# Altium footprint library k7shared.PcbLib: 8 footprints
Each footprint in its own frame and in the unit in brackets; x right, y up, seen from the top. Pads: shape width x height; smd on the part's side, far side on the other; paste and mask are expansions set on the pad; w line width, h text height; cw(c..) or ccw(c..) is an arc to the next point about the centre after c.
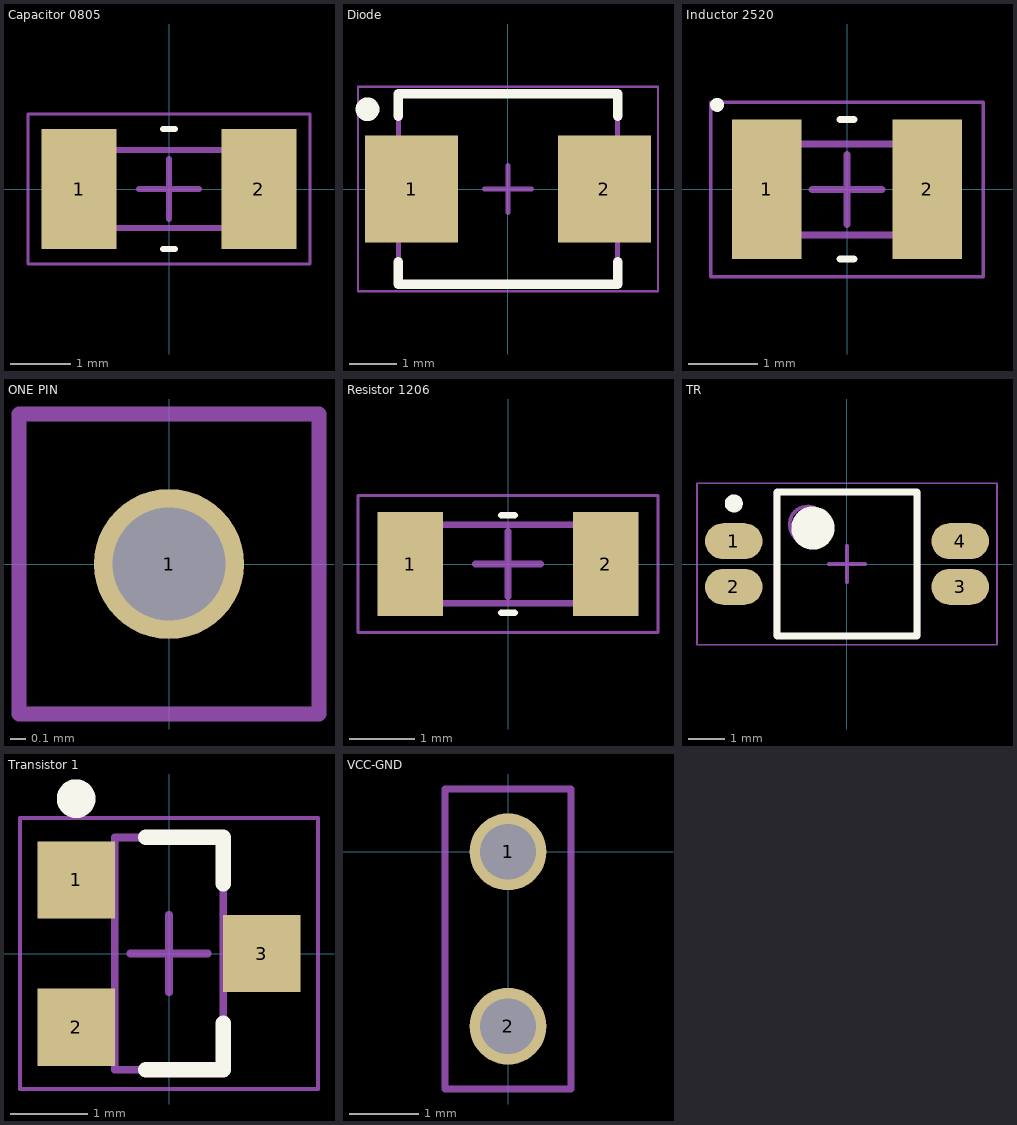
[diagram p0: the footprints below, top view; thin cyan lines are the x and y axes]

## Capacitor 0805 [mm]
height 0.6
pads (2):
  rect 1.25x2 smd: 1(-1.5,0) 2(1.5,0)
Top Overlay:
  lines w0.1: -0.1,-1 0.1,-1 ; -0.1,1 0.1,1
Mechanical 13:
  lines w0.1: -1.75,-0.65 1.75,-0.65 1.75,0.65 -1.75,0.65 -1.75,-0.65
Mechanical 15:
  lines w0.05: -2.35,-1.25 2.35,-1.25 2.35,1.25 -2.35,1.25 -2.35,-1.25
  lines w0.1: -0.5,0 0.5,0 ; 0,-0.5 0,0.5
3D body: height 0.6, standoff 0, extent 1.15,-0.65 1.75,0.65
3D body: height 0.6, standoff 0, extent -1.75,-0.65 -1.15,0.65
3D body: height 0.6, standoff 0, extent -1.15,-0.65 1.15,0.65

## Diode [mm]
height 1.1
pads (2):
  rect 1.95x2.25 smd: 1(-2.025,0) 2(2.025,0)
Top Overlay:
  circle w0.25: c-2.95,1.675 r0.125
  lines w0.2: -2.3,-1.525 -2.3,-2 2.3,-2 2.3,-1.525 ; -2.3,1.525 -2.3,2 2.3,2 2.3,1.525
Mechanical 13:
  lines w0.1: -2.3,-1.975 2.3,-1.975 2.3,1.975 -2.3,1.975 -2.3,-1.975
Mechanical 15:
  lines w0.05: -3.15,-2.15 3.15,-2.15 3.15,2.15 -3.15,2.15 -3.15,-2.15
  lines w0.1: -0.5,0 0.5,0 ; 0,-0.5 0,0.5
3D body: height 1.1, standoff 0, extent -2.3,-1.975 2.3,1.975

## Inductor 2520 [mm]
height 0.6
pads (2):
  rect 1x2 smd: 1(-1.15,0) 2(1.15,0)
Top Overlay:
  circle w0.1: c-1.862,1.212 r0.05
  lines w0.1: -0.1,-1 0.1,-1 ; -0.1,1 0.1,1
Mechanical 13:
  lines w0.1: -1.3,-0.65 -1.3,0.65 1.3,0.65 1.3,-0.65 -1.3,-0.65
Mechanical 15:
  lines w0.05: -1.95,-1.25 -1.95,1.25 1.95,1.25 1.95,-1.25 -1.95,-1.25
  lines w0.1: -0.5,0 0.5,0 ; 0,-0.5 0,0.5
3D body: height 0.6, standoff 0, extent -0.7,-0.65 0.7,0.65
3D body: height 0.6, standoff 0, extent -1.3,-0.65 -0.7,0.65
3D body: height 0.6, standoff 0, extent 0.7,-0.65 1.3,0.65

## ONE PIN [mm]
pads (1):
  round 1 hole 0.75: 1(0,0)
Mechanical 15:
  lines w0.1: -1,-1 -1,1 1,1 1,-1 -1,-1

## Resistor 1206 [mm]
height 0.6
pads (2):
  rect 1x1.6 smd: 1(-1.5,0) 2(1.5,0)
Top Overlay:
  lines w0.1: -0.1,-0.75 0.1,-0.75 ; -0.1,0.75 0.1,0.75
Mechanical 13:
  lines w0.1: -1.7,-0.6 1.7,-0.6 1.7,0.6 -1.7,0.6 -1.7,-0.6
Mechanical 15:
  lines w0.05: -2.3,-1.05 2.3,-1.05 2.3,1.05 -2.3,1.05 -2.3,-1.05
  lines w0.1: -0.5,0 0.5,0 ; 0,-0.5 0,0.5
3D body: height 0.6, standoff 0, extent 1.1,-0.6 1.7,0.6
3D body: height 0.6, standoff 0, extent -1.7,-0.6 -1.1,0.6
3D body: height 0.6, standoff 0, extent -1.1,-0.6 1.1,0.6

## TR [mm]
height 2.65
pads (4):
  oval 1.6x1 smd: 1(-3.15,0.635) 2(-3.15,-0.635) 3(3.15,-0.635) 4(3.15,0.635)
Top Overlay:
  circle w0.6: c-0.95,1 r0.3
  circle w0.25: c-3.15,1.685 r0.125
  lines w0.2: -1.95,-2 1.95,-2 1.95,2 -1.95,2 -1.95,-2
Mechanical 13:
  circle w0.1: c-1.1,1.1 r0.5
  lines w0.1: -2,-2 2,-2 2,2 -2,2 -2,-2
Mechanical 15:
  lines w0.05: -4.175,-2.25 4.175,-2.25 4.175,2.25 -4.175,2.25 -4.175,-2.25
  lines w0.1: -0.5,0 0.5,0 ; 0,-0.5 0,0.5
3D body: height 2.65, standoff 0.1, extent -2,-2 2,2

## Transistor 1 [mm]
height 1.1
pads (3):
  rect 1x1 smd: 1(-1.2,0.95) 2(-1.2,-0.95) 3(1.2,0)
Top Overlay:
  circle w0.25: c-1.2,2 r0.125
  lines w0.2: -0.3,-1.5 0.7,-1.5 0.7,-0.9 ; -0.3,1.5 0.7,1.5 0.7,0.9
Mechanical 13:
  lines w0.1: -0.7,-1.5 0.7,-1.5 0.7,1.5 -0.7,1.5 -0.7,-1.5
Mechanical 15:
  lines w0.05: -1.925,-1.75 1.925,-1.75 1.925,1.75 -1.925,1.75 -1.925,-1.75
  lines w0.1: -0.5,0 0.5,0 ; 0,-0.5 0,0.5
3D body: height 1.1, standoff 0.05, extent -0.7,-1.5 0.7,1.5

## VCC-GND [mm]
pads (2):
  round 1.1 hole 0.8: 1(0,0) 2(0,-2.5)
Mechanical 15:
  lines w0.1: -0.9,-3.4 0.9,-3.4 0.9,0.9 -0.9,0.9 -0.9,-3.4